# Altium footprint library 驱动封装库.PcbLib: 1 footprints
Each footprint in its own frame and in the unit in brackets; x right, y up, seen from the top. Pads: shape width x height; smd on the part's side, far side on the other; paste and mask are expansions set on the pad; w line width, h text height; cw(c..) or ccw(c..) is an arc to the next point about the centre after c.
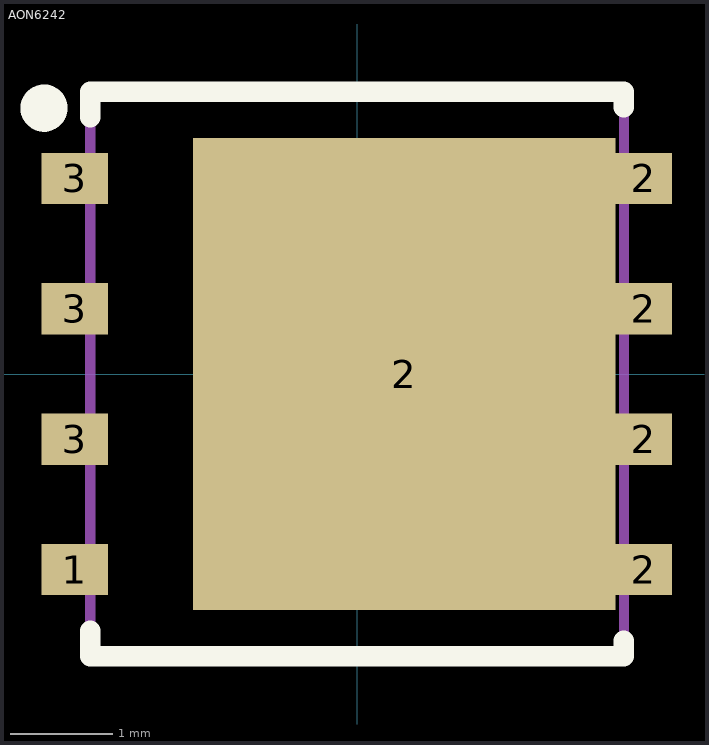
[diagram p0: the footprint, top view; thin cyan lines are the x and y axes]

## AON6242 [mm]
pads (9):
  rect 0.65x0.5 smd: 1(-2.75,-1.905) 3(-2.75,-0.635) 3(-2.75,0.635) 3(-2.75,1.905)
  rect 4.12x4.6 smd: 2(0.46,0)
  rect 0.55x0.5 smd: 2(2.795,-1.905) 2(2.795,-0.635) 2(2.795,0.635) 2(2.795,1.905)
Top Overlay:
  circle w0.3: c-3.05,2.59 r0.08
  lines w0.2: -2.6,-2.5 -2.6,-2.75 2.6,-2.75 2.6,-2.6 ; -2.6,2.5 -2.6,2.75 2.6,2.75 2.6,2.6
Mechanical 4:
  lines w0.1: -2.6,-2.75 -2.6,2.75 ; -2.6,-2.75 2.6,-2.75 ; -2.6,-2.75 -2.6,2.75 ; -2.6,-2.75 2.6,-2.75 ; -2.6,2.75 2.6,2.75 ; -2.6,2.75 2.6,2.75 ; 2.6,-2.75 2.6,2.75 ; 2.6,-2.75 2.6,2.75